# EAGLE library part LD39050 (library FaBo-Supply)
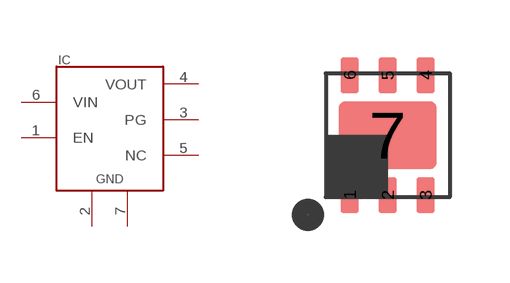
[diagram p3: symbol with the pads of DFN-6; footprint DFN-6]

Designator prefix IC

## LD39050  [DFN-6]
1  EN
2  GND
3  PG
4  VOUT
5  NC
6  VIN
7  GND

## Footprint DFN-6 (pad centres in mm)
smd 0.45 x 0.9: 1 -0.95,-1.5; 2 0,-1.5; 3 0.95,-1.5; 4 0.95,1.5; 5 0,1.5; 6 -0.95,1.5
smd 2.45 x 1.7: 7 0,0